# Altium integrated library Xilinx XC1700.IntLib: 26 symbols
Pins are listed as number, name and electrical type; pins without a type are passive.

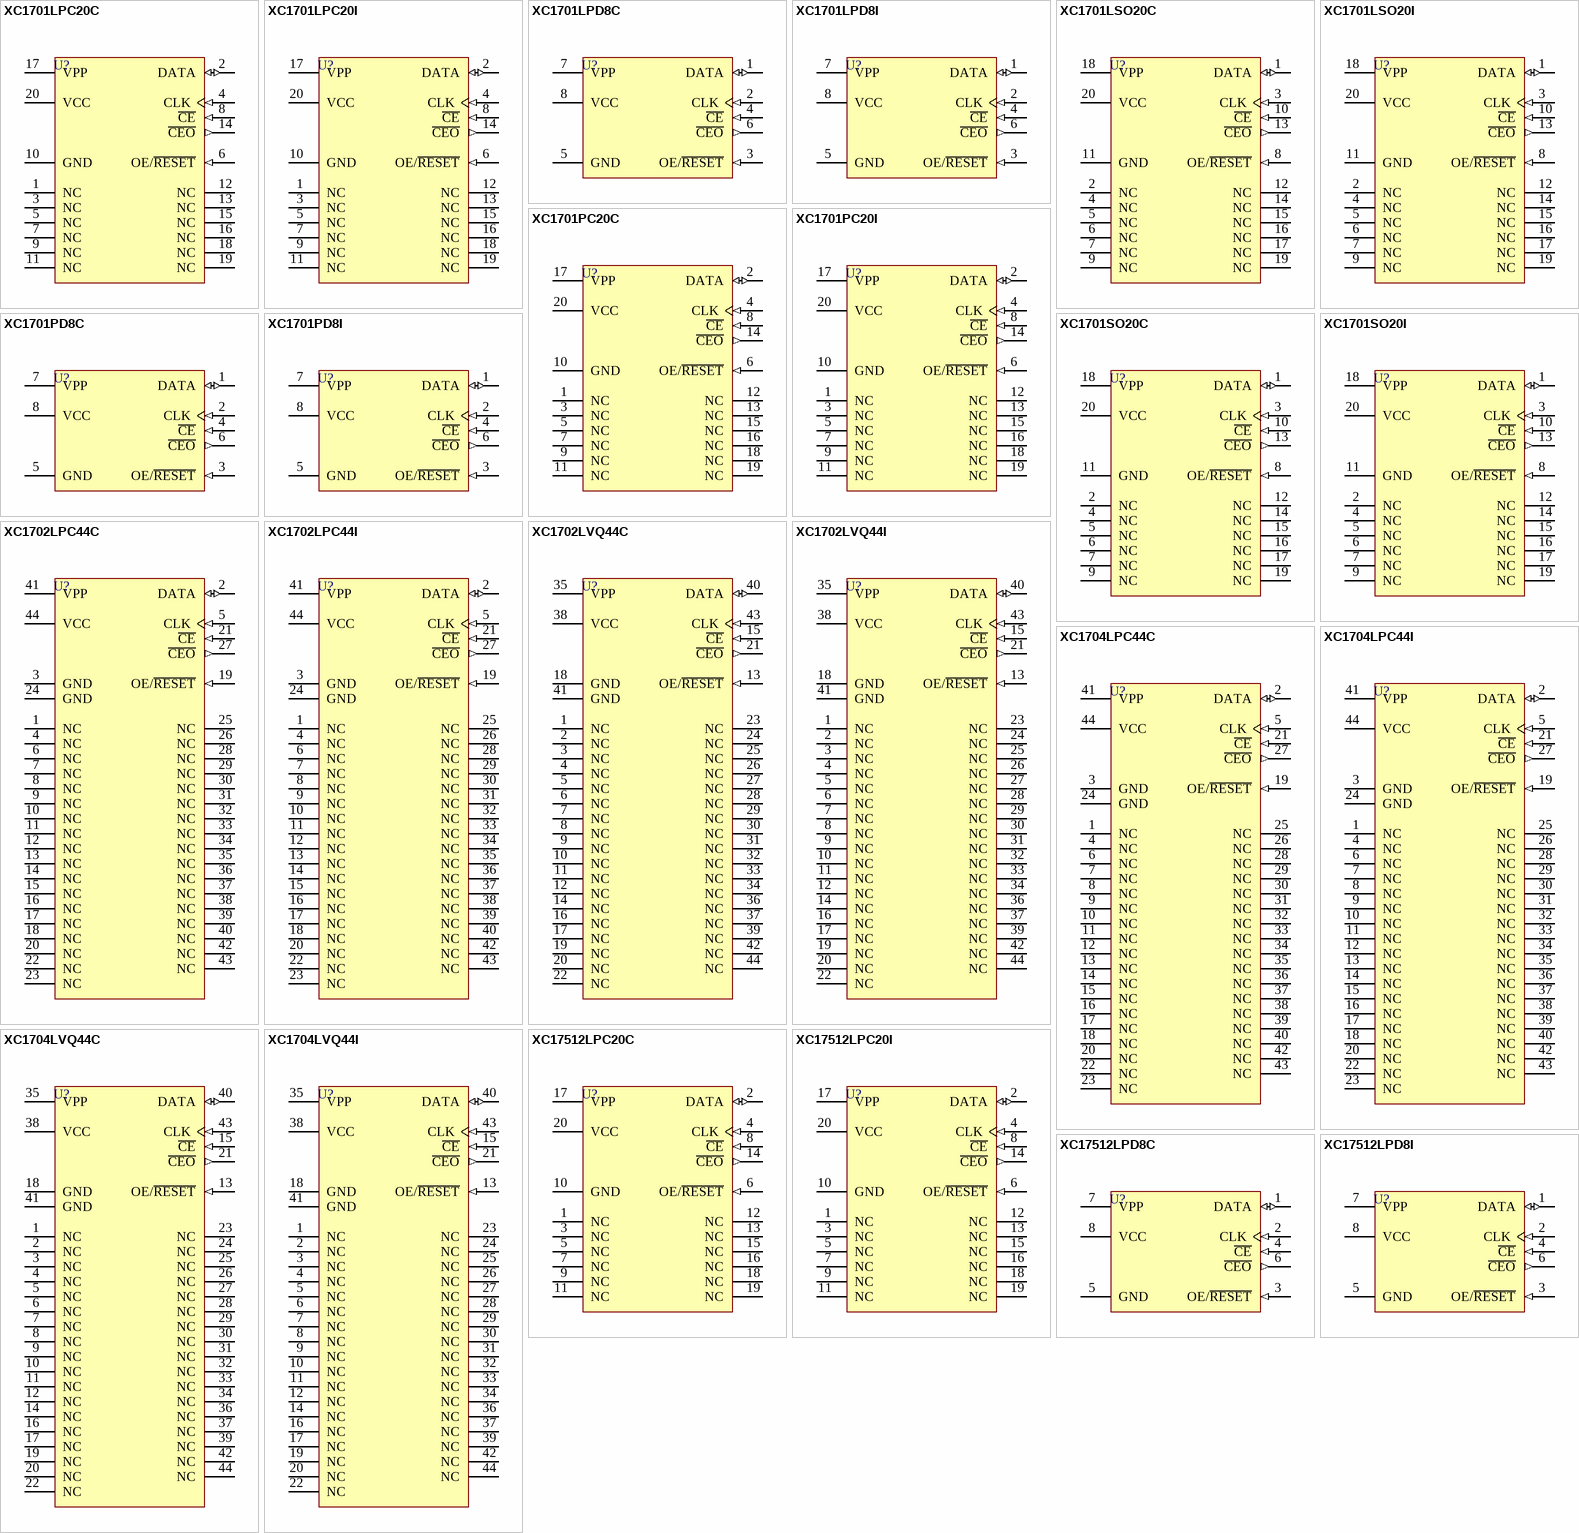
[diagram p0: symbols XC1701LPC20C to XC17512LPD8I]

## XC1701LPC20C
designator U?
XC1700L Series, One-Time Programmable Configuration 3.3V PROM, 20-Pin PLCC, 1-Megabit Density, Commercial Grade; PackageDocument: ver1.0, Jun-2000; Published: 17-Dec-2003; DatasheetDocument: ver3.1, Jul-2000; PackageReference: PC20; Publisher: Altium Limited; Code_JEDEC: MS-047
footprint PC20 (20-Pin Plastic Leaded Chip Carrier (PC20))
3D model XC1701L-PC20 (20-Pin Plastic Leaded Chip Carrier (PC20))
pins: 1 NC "No Connection.", 2 DATA (io) "Data Output.", 3 NC "No Connection.", 4 CLK (in) "Clock input for internal address counter.", 5 NC "No Connection.", 6 OE/~{RESET} (in) "Output Enable/Reset.", 7 NC "No Connection.", 8 ~{CE} (in) "Chip Enable Input.", 9 NC "No Connection.", 10 GND (power) "Ground.", 11 NC "No Connection.", 12 NC "No Connection.", 13 NC "No Connection.", 14 ~{CEO} (out) "Chip Enable Output, connects to the CE input of the next PROM in the chain.", 15 NC "No Connection.", 16 NC "No Connection.", 17 VPP (power) "Programming Voltage.  Do not leave Vpp floating!", 18 NC "No Connection.", 19 NC "No Connection.", 20 VCC (power) "Positive Supply."

## XC1701LPC20I
designator U?
XC1700L Series, One-Time Programmable Configuration 3.3V PROM, 20-Pin PLCC, 1-Megabit Density, Industrial Grade; PackageDocument: ver1.0, Jun-2000; Published: 17-Dec-2003; DatasheetDocument: ver3.1, Jul-2000; PackageReference: PC20; Publisher: Altium Limited; Code_JEDEC: MS-047
footprint PC20 (20-Pin Plastic Leaded Chip Carrier (PC20))
3D model XC1701L-PC20 (20-Pin Plastic Leaded Chip Carrier (PC20))
pins: 1 NC "No Connection.", 2 DATA (io) "Data Output.", 3 NC "No Connection.", 4 CLK (in) "Clock input for internal address counter.", 5 NC "No Connection.", 6 OE/~{RESET} (in) "Output Enable/Reset.", 7 NC "No Connection.", 8 ~{CE} (in) "Chip Enable Input.", 9 NC "No Connection.", 10 GND (power) "Ground.", 11 NC "No Connection.", 12 NC "No Connection.", 13 NC "No Connection.", 14 ~{CEO} (out) "Chip Enable Output, connects to the CE input of the next PROM in the chain.", 15 NC "No Connection.", 16 NC "No Connection.", 17 VPP (power) "Programming Voltage.  Do not leave Vpp floating!", 18 NC "No Connection.", 19 NC "No Connection.", 20 VCC (power) "Positive Supply."

## XC1701LPD8C
designator U?
XC1700L Series, One-Time Programmable Configuration 3.3V PROM, 8-Pin PDIP, 1-Megabit Density, Commercial Grade; PackageDocument: rev1.1, Apr-2001; Published: 17-Dec-2003; DatasheetDocument: ver3.1, Jul-2000; PackageReference: PD8; Publisher: Altium Limited; Code_JEDEC: MS-001-BA
footprint PD8 (8-Pin Plastic DIP (PD8))
pins: 1 DATA (io) "Data Output.", 2 CLK (in) "Clock input for internal address counter.", 3 OE/~{RESET} (in) "Output Enable/Reset.", 4 ~{CE} (in) "Chip Enable Input.", 5 GND (power) "Ground.", 6 ~{CEO} (out) "Chip Enable Output, connects to the CE input of the next PROM in the chain.", 7 VPP (power) "Programming Voltage.  Do not leave Vpp floating!", 8 VCC (power) "Positive Supply."

## XC1701LPD8I
designator U?
XC1700L Series, One-Time Programmable Configuration 3.3V PROM, 8-Pin PDIP, 1-Megabit Density, Industrial Grade; PackageDocument: rev1.1, Apr-2001; Published: 17-Dec-2003; DatasheetDocument: ver3.1, Jul-2000; PackageReference: PD8; Publisher: Altium Limited; Code_JEDEC: MS-001-BA
footprint PD8 (8-Pin Plastic DIP (PD8))
pins: 1 DATA (io) "Data Output.", 2 CLK (in) "Clock input for internal address counter.", 3 OE/~{RESET} (in) "Output Enable/Reset.", 4 ~{CE} (in) "Chip Enable Input.", 5 GND (power) "Ground.", 6 ~{CEO} (out) "Chip Enable Output, connects to the CE input of the next PROM in the chain.", 7 VPP (power) "Programming Voltage.  Do not leave Vpp floating!", 8 VCC (power) "Positive Supply."

## XC1701LSO20C
designator U?
XC1700L Series, One-Time Programmable Configuration 3.3V PROM, 20-Pin SOIC, 1-Megabit Density, Commercial Grade; PackageDocument: ver1.0, Jun-2000; Published: 17-Dec-2003; DatasheetDocument: ver3.1, Jul-2000; PackageReference: SO20; Publisher: Altium Limited; Code_JEDEC: MS-013-AC
footprint SO20 (20-Pin Small-Outline Package (SO20))
pins: 1 DATA (io) "Data Output.", 2 NC "No Connection.", 3 CLK (in) "Clock input for internal address counter.", 4 NC "No Connection.", 5 NC "No Connection.", 6 NC "No Connection.", 7 NC "No Connection.", 8 OE/~{RESET} (in) "Output Enable/Reset.", 9 NC "No Connection.", 10 ~{CE} (in) "Chip Enable Input.", 11 GND (power) "Ground.", 12 NC "No Connection.", 13 ~{CEO} (out) "Chip Enable Output, connects to the CE input of the next PROM in the chain.", 14 NC "No Connection.", 15 NC "No Connection.", 16 NC "No Connection.", 17 NC "No Connection.", 18 VPP (power) "Programming Voltage.  Do not leave Vpp floating!", 19 NC "No Connection.", 20 VCC (power) "Positive Supply."

## XC1701LSO20I
designator U?
XC1700L Series, One-Time Programmable Configuration 3.3V PROM, 20-Pin SOIC, 1-Megabit Density, Industrial Grade; PackageDocument: ver1.0, Jun-2000; Published: 17-Dec-2003; DatasheetDocument: ver3.1, Jul-2000; PackageReference: SO20; Publisher: Altium Limited; Code_JEDEC: MS-013-AC
footprint SO20 (20-Pin Small-Outline Package (SO20))
pins: 1 DATA (io) "Data Output.", 2 NC "No Connection.", 3 CLK (in) "Clock input for internal address counter.", 4 NC "No Connection.", 5 NC "No Connection.", 6 NC "No Connection.", 7 NC "No Connection.", 8 OE/~{RESET} (in) "Output Enable/Reset.", 9 NC "No Connection.", 10 ~{CE} (in) "Chip Enable Input.", 11 GND (power) "Ground.", 12 NC "No Connection.", 13 ~{CEO} (out) "Chip Enable Output, connects to the CE input of the next PROM in the chain.", 14 NC "No Connection.", 15 NC "No Connection.", 16 NC "No Connection.", 17 NC "No Connection.", 18 VPP (power) "Programming Voltage.  Do not leave Vpp floating!", 19 NC "No Connection.", 20 VCC (power) "Positive Supply."

## XC1701PC20C
designator U?
XC1700L Series, One-Time Programmable Configuration 3.3V PROM, 20-Pin PLCC, 1-Megabit Density, Commercial Grade; PackageDocument: ver1.0, Jun-2000; Published: 17-Dec-2003; DatasheetDocument: ver3.1, Jul-2000; PackageReference: PC20; Publisher: Altium Limited; Code_JEDEC: MS-047
footprint PC20 (20-Pin Plastic Leaded Chip Carrier (PC20))
3D model XC1701-PC20 (20-Pin Plastic Leaded Chip Carrier (PC20))
pins: 1 NC "No Connection.", 2 DATA (io) "Data Output.", 3 NC "No Connection.", 4 CLK (in) "Clock input for internal address counter.", 5 NC "No Connection.", 6 OE/~{RESET} (in) "Output Enable/Reset.", 7 NC "No Connection.", 8 ~{CE} (in) "Chip Enable Input.", 9 NC "No Connection.", 10 GND (power) "Ground.", 11 NC "No Connection.", 12 NC "No Connection.", 13 NC "No Connection.", 14 ~{CEO} (out) "Chip Enable Output, connects to the CE input of the next PROM in the chain.", 15 NC "No Connection.", 16 NC "No Connection.", 17 VPP (power) "Programming Voltage.  Do not leave Vpp floating!", 18 NC "No Connection.", 19 NC "No Connection.", 20 VCC (power) "Positive Supply."

## XC1701PC20I
designator U?
XC1700L Series, One-Time Programmable Configuration 3.3V PROM, 20-Pin PLCC, 1-Megabit Density, Industrial Grade; PackageDocument: ver1.0, Jun-2000; Published: 17-Dec-2003; DatasheetDocument: ver3.1, Jul-2000; PackageReference: PC20; Publisher: Altium Limited; Code_JEDEC: MS-047
footprint PC20 (20-Pin Plastic Leaded Chip Carrier (PC20))
3D model XC1701-PC20 (20-Pin Plastic Leaded Chip Carrier (PC20))
pins: 1 NC "No Connection.", 2 DATA (io) "Data Output.", 3 NC "No Connection.", 4 CLK (in) "Clock input for internal address counter.", 5 NC "No Connection.", 6 OE/~{RESET} (in) "Output Enable/Reset.", 7 NC "No Connection.", 8 ~{CE} (in) "Chip Enable Input.", 9 NC "No Connection.", 10 GND (power) "Ground.", 11 NC "No Connection.", 12 NC "No Connection.", 13 NC "No Connection.", 14 ~{CEO} (out) "Chip Enable Output, connects to the CE input of the next PROM in the chain.", 15 NC "No Connection.", 16 NC "No Connection.", 17 VPP (power) "Programming Voltage.  Do not leave Vpp floating!", 18 NC "No Connection.", 19 NC "No Connection.", 20 VCC (power) "Positive Supply."

## XC1701PD8C
designator U?
XC1700L Series, One-Time Programmable Configuration 3.3V PROM, 8-Pin PDIP, 1-Megabit Density, Commercial Grade; PackageDocument: rev1.1, Apr-2001; Published: 17-Dec-2003; DatasheetDocument: ver3.1, Jul-2000; PackageReference: PD8; Publisher: Altium Limited; Code_JEDEC: MS-001-BA
footprint PD8 (8-Pin Plastic DIP (PD8))
pins: 1 DATA (io) "Data Output.", 2 CLK (in) "Clock input for internal address counter.", 3 OE/~{RESET} (in) "Output Enable/Reset.", 4 ~{CE} (in) "Chip Enable Input.", 5 GND (power) "Ground.", 6 ~{CEO} (out) "Chip Enable Output, connects to the CE input of the next PROM in the chain.", 7 VPP (power) "Programming Voltage.  Do not leave Vpp floating!", 8 VCC (power) "Positive Supply."

## XC1701PD8I
designator U?
XC1700L Series, One-Time Programmable Configuration 3.3V PROM, 8-Pin PDIP, 1-Megabit Density, Industrial Grade; PackageDocument: rev1.1, Apr-2001; Published: 17-Dec-2003; DatasheetDocument: ver3.1, Jul-2000; PackageReference: PD8; Publisher: Altium Limited; Code_JEDEC: MS-001-BA
footprint PD8 (8-Pin Plastic DIP (PD8))
pins: 1 DATA (io) "Data Output.", 2 CLK (in) "Clock input for internal address counter.", 3 OE/~{RESET} (in) "Output Enable/Reset.", 4 ~{CE} (in) "Chip Enable Input.", 5 GND (power) "Ground.", 6 ~{CEO} (out) "Chip Enable Output, connects to the CE input of the next PROM in the chain.", 7 VPP (power) "Programming Voltage.  Do not leave Vpp floating!", 8 VCC (power) "Positive Supply."

## XC1701SO20C
designator U?
XC1700L Series, One-Time Programmable Configuration 3.3V PROM, 20-Pin SOIC, 1-Megabit Density, Commercial Grade; PackageDocument: ver1.0, Jun-2000; Published: 17-Dec-2003; DatasheetDocument: ver3.1, Jul-2000; PackageReference: SO20; Publisher: Altium Limited; Code_JEDEC: MS-013-AC
footprint SO20 (20-Pin Small-Outline Package (SO20))
pins: 1 DATA (io) "Data Output.", 2 NC "No Connection.", 3 CLK (in) "Clock input for internal address counter.", 4 NC "No Connection.", 5 NC "No Connection.", 6 NC "No Connection.", 7 NC "No Connection.", 8 OE/~{RESET} (in) "Output Enable/Reset.", 9 NC "No Connection.", 10 ~{CE} (in) "Chip Enable Input.", 11 GND (power) "Ground.", 12 NC "No Connection.", 13 ~{CEO} (out) "Chip Enable Output, connects to the CE input of the next PROM in the chain.", 14 NC "No Connection.", 15 NC "No Connection.", 16 NC "No Connection.", 17 NC "No Connection.", 18 VPP (power) "Programming Voltage.  Do not leave Vpp floating!", 19 NC "No Connection.", 20 VCC (power) "Positive Supply."

## XC1701SO20I
designator U?
XC1700L Series, One-Time Programmable Configuration 3.3V PROM, 20-Pin SOIC, 1-Megabit Density, Industrial Grade; PackageDocument: ver1.0, Jun-2000; Published: 17-Dec-2003; DatasheetDocument: ver3.1, Jul-2000; PackageReference: SO20; Publisher: Altium Limited; Code_JEDEC: MS-013-AC
footprint SO20 (20-Pin Small-Outline Package (SO20))
pins: 1 DATA (io) "Data Output.", 2 NC "No Connection.", 3 CLK (in) "Clock input for internal address counter.", 4 NC "No Connection.", 5 NC "No Connection.", 6 NC "No Connection.", 7 NC "No Connection.", 8 OE/~{RESET} (in) "Output Enable/Reset.", 9 NC "No Connection.", 10 ~{CE} (in) "Chip Enable Input.", 11 GND (power) "Ground.", 12 NC "No Connection.", 13 ~{CEO} (out) "Chip Enable Output, connects to the CE input of the next PROM in the chain.", 14 NC "No Connection.", 15 NC "No Connection.", 16 NC "No Connection.", 17 NC "No Connection.", 18 VPP (power) "Programming Voltage.  Do not leave Vpp floating!", 19 NC "No Connection.", 20 VCC (power) "Positive Supply."

## XC1702LPC44C
designator U?
XC1700L Series, One-Time Programmable Configuration 3.3V PROM, 44-Pin PLCC, 2-Megabit Density, Commercial Grade; PackageDocument: ver1.0, Jun-2000; Published: 17-Dec-2003; DatasheetDocument: ver3.1, Jul-2000; PackageReference: PC44; Publisher: Altium Limited; Code_JEDEC: MS-047; Code_IPC: PLCC-44
footprint PC44 (44-Pin Plastic Leaded Chip Carrier (PC44))
3D model XC1702L-PC44 (44-Pin Plastic Leaded Chip Carrier (PC44))
pins: 1 NC "No Connection.", 2 DATA (io) "Data Output.", 3 GND (power) "Ground.", 4 NC "No Connection.", 5 CLK (in) "Clock input for internal address counter.", 6 NC "No Connection.", 7 NC "No Connection.", 8 NC "No Connection.", 9 NC "No Connection.", 10 NC "No Connection.", 11 NC "No Connection.", 12 NC "No Connection.", 13 NC "No Connection.", 14 NC "No Connection.", 15 NC "No Connection.", 16 NC "No Connection.", 17 NC "No Connection.", 18 NC "No Connection.", 19 OE/~{RESET} (in) "Output Enable/Reset.", 20 NC "No Connection.", 21 ~{CE} (in) "Chip Enable Input.", 22 NC "No Connection.", 23 NC "No Connection.", 24 GND (power) "Ground.", 25 NC "No Connection.", 26 NC "No Connection.", 27 ~{CEO} (out) "Chip Enable Output, connects to the CE input of the next PROM in the chain.", 28 NC "No Connection.", 29 NC "No Connection.", 30 NC "No Connection.", 31 NC "No Connection.", 32 NC "No Connection.", 33 NC "No Connection.", 34 NC "No Connection.", 35 NC "No Connection.", 36 NC "No Connection.", 37 NC "No Connection.", 38 NC "No Connection.", 39 NC "No Connection.", 40 NC "No Connection.", 41 VPP (power) "Programming Voltage.  Do not leave Vpp floating!", 42 NC "No Connection.", 43 NC "No Connection.", 44 VCC (power) "Positive Supply."

## XC1702LPC44I
designator U?
XC1700L Series, One-Time Programmable Configuration 3.3V PROM, 44-Pin PLCC, 2-Megabit Density, Industrial Grade; PackageDocument: ver1.0, Jun-2000; Published: 17-Dec-2003; DatasheetDocument: ver3.1, Jul-2000; PackageReference: PC44; Publisher: Altium Limited; Code_JEDEC: MS-047; Code_IPC: PLCC-44
footprint PC44 (44-Pin Plastic Leaded Chip Carrier (PC44))
3D model XC1702L-PC44 (44-Pin Plastic Leaded Chip Carrier (PC44))
pins: 1 NC "No Connection.", 2 DATA (io) "Data Output.", 3 GND (power) "Ground.", 4 NC "No Connection.", 5 CLK (in) "Clock input for internal address counter.", 6 NC "No Connection.", 7 NC "No Connection.", 8 NC "No Connection.", 9 NC "No Connection.", 10 NC "No Connection.", 11 NC "No Connection.", 12 NC "No Connection.", 13 NC "No Connection.", 14 NC "No Connection.", 15 NC "No Connection.", 16 NC "No Connection.", 17 NC "No Connection.", 18 NC "No Connection.", 19 OE/~{RESET} (in) "Output Enable/Reset.", 20 NC "No Connection.", 21 ~{CE} (in) "Chip Enable Input.", 22 NC "No Connection.", 23 NC "No Connection.", 24 GND (power) "Ground.", 25 NC "No Connection.", 26 NC "No Connection.", 27 ~{CEO} (out) "Chip Enable Output, connects to the CE input of the next PROM in the chain.", 28 NC "No Connection.", 29 NC "No Connection.", 30 NC "No Connection.", 31 NC "No Connection.", 32 NC "No Connection.", 33 NC "No Connection.", 34 NC "No Connection.", 35 NC "No Connection.", 36 NC "No Connection.", 37 NC "No Connection.", 38 NC "No Connection.", 39 NC "No Connection.", 40 NC "No Connection.", 41 VPP (power) "Programming Voltage.  Do not leave Vpp floating!", 42 NC "No Connection.", 43 NC "No Connection.", 44 VCC (power) "Positive Supply."

## XC1702LVQ44C
designator U?
XC1700L Series, One-Time Programmable Configuration 3.3V PROM, 44-Pin VQFP, 2-Megabit Density, Commercial Grade; PackageDocument: ver1.1, Oct-2002; Published: 17-Dec-2003; DatasheetDocument: ver3.1, Jul-2000; PackageReference: VQ44; Publisher: Altium Limited; Code_JEDEC: MS-026-ACB
footprint VQ44 (44-Pin Very Thin Quad Flat Pack (VQ44))
3D model XC1702L-VQ44 (44-Pin Very Thin Quad Flat Pack (VQ44))
pins: 1 NC "No Connection.", 2 NC "No Connection.", 3 NC "No Connection.", 4 NC "No Connection.", 5 NC "No Connection.", 6 NC "No Connection.", 7 NC "No Connection.", 8 NC "No Connection.", 9 NC "No Connection.", 10 NC "No Connection.", 11 NC "No Connection.", 12 NC "No Connection.", 13 OE/~{RESET} (in) "Output Enable/Reset.", 14 NC "No Connection.", 15 ~{CE} (in) "Chip Enable Input.", 16 NC "No Connection.", 17 NC "No Connection.", 18 GND (power) "Ground.", 19 NC "No Connection.", 20 NC "No Connection.", 21 ~{CEO} (out) "Chip Enable Output, connects to the CE input of the next PROM in the chain.", 22 NC "No Connection.", 23 NC "No Connection.", 24 NC "No Connection.", 25 NC "No Connection.", 26 NC "No Connection.", 27 NC "No Connection.", 28 NC "No Connection.", 29 NC "No Connection.", 30 NC "No Connection.", 31 NC "No Connection.", 32 NC "No Connection.", 33 NC "No Connection.", 34 NC "No Connection.", 35 VPP (power) "Programming Voltage.  Do not leave Vpp floating!", 36 NC "No Connection.", 37 NC "No Connection.", 38 VCC (power) "Positive Supply.", 39 NC "No Connection.", 40 DATA (io) "Data Output.", 41 GND (power) "Ground.", 42 NC "No Connection.", 43 CLK (in) "Clock input for internal address counter.", 44 NC "No Connection."

## XC1702LVQ44I
designator U?
XC1700L Series, One-Time Programmable Configuration 3.3V PROM, 44-Pin VQFP, 2-Megabit Density, Industrial Grade; PackageDocument: ver1.1, Oct-2002; Published: 17-Dec-2003; DatasheetDocument: ver3.1, Jul-2000; PackageReference: VQ44; Publisher: Altium Limited; Code_JEDEC: MS-026-ACB
footprint VQ44 (44-Pin Very Thin Quad Flat Pack (VQ44))
3D model XC1702L-VQ44 (44-Pin Very Thin Quad Flat Pack (VQ44))
pins: 1 NC "No Connection.", 2 NC "No Connection.", 3 NC "No Connection.", 4 NC "No Connection.", 5 NC "No Connection.", 6 NC "No Connection.", 7 NC "No Connection.", 8 NC "No Connection.", 9 NC "No Connection.", 10 NC "No Connection.", 11 NC "No Connection.", 12 NC "No Connection.", 13 OE/~{RESET} (in) "Output Enable/Reset.", 14 NC "No Connection.", 15 ~{CE} (in) "Chip Enable Input.", 16 NC "No Connection.", 17 NC "No Connection.", 18 GND (power) "Ground.", 19 NC "No Connection.", 20 NC "No Connection.", 21 ~{CEO} (out) "Chip Enable Output, connects to the CE input of the next PROM in the chain.", 22 NC "No Connection.", 23 NC "No Connection.", 24 NC "No Connection.", 25 NC "No Connection.", 26 NC "No Connection.", 27 NC "No Connection.", 28 NC "No Connection.", 29 NC "No Connection.", 30 NC "No Connection.", 31 NC "No Connection.", 32 NC "No Connection.", 33 NC "No Connection.", 34 NC "No Connection.", 35 VPP (power) "Programming Voltage.  Do not leave Vpp floating!", 36 NC "No Connection.", 37 NC "No Connection.", 38 VCC (power) "Positive Supply.", 39 NC "No Connection.", 40 DATA (io) "Data Output.", 41 GND (power) "Ground.", 42 NC "No Connection.", 43 CLK (in) "Clock input for internal address counter.", 44 NC "No Connection."

## XC1704LPC44C
designator U?
XC1700L Series, One-Time Programmable Configuration 3.3V PROM, 44-Pin PLCC, 4-Megabit Density, Commercial Grade; PackageDocument: ver1.0, Jun-2000; Published: 17-Dec-2003; DatasheetDocument: ver3.1, Jul-2000; PackageReference: PC44; Publisher: Altium Limited; Code_JEDEC: MS-047; Code_IPC: PLCC-44
footprint PC44 (44-Pin Plastic Leaded Chip Carrier (PC44))
3D model XC1704L-PC44 (44-Pin Plastic Leaded Chip Carrier (PC44))
pins: 1 NC "No Connection.", 2 DATA (io) "Data Output.", 3 GND (power) "Ground.", 4 NC "No Connection.", 5 CLK (in) "Clock input for internal address counter.", 6 NC "No Connection.", 7 NC "No Connection.", 8 NC "No Connection.", 9 NC "No Connection.", 10 NC "No Connection.", 11 NC "No Connection.", 12 NC "No Connection.", 13 NC "No Connection.", 14 NC "No Connection.", 15 NC "No Connection.", 16 NC "No Connection.", 17 NC "No Connection.", 18 NC "No Connection.", 19 OE/~{RESET} (in) "Output Enable/Reset.", 20 NC "No Connection.", 21 ~{CE} (in) "Chip Enable Input.", 22 NC "No Connection.", 23 NC "No Connection.", 24 GND (power) "Ground.", 25 NC "No Connection.", 26 NC "No Connection.", 27 ~{CEO} (out) "Chip Enable Output, connects to the CE input of the next PROM in the chain.", 28 NC "No Connection.", 29 NC "No Connection.", 30 NC "No Connection.", 31 NC "No Connection.", 32 NC "No Connection.", 33 NC "No Connection.", 34 NC "No Connection.", 35 NC "No Connection.", 36 NC "No Connection.", 37 NC "No Connection.", 38 NC "No Connection.", 39 NC "No Connection.", 40 NC "No Connection.", 41 VPP (power) "Programming Voltage.  Do not leave Vpp floating!", 42 NC "No Connection.", 43 NC "No Connection.", 44 VCC (power) "Positive Supply."

## XC1704LPC44I
designator U?
XC1700L Series, One-Time Programmable Configuration 3.3V PROM, 44-Pin PLCC, 4-Megabit Density, Industrial Grade; PackageDocument: ver1.0, Jun-2000; Published: 17-Dec-2003; DatasheetDocument: ver3.1, Jul-2000; PackageReference: PC44; Publisher: Altium Limited; Code_JEDEC: MS-047; Code_IPC: PLCC-44
footprint PC44 (44-Pin Plastic Leaded Chip Carrier (PC44))
3D model XC1704L-PC44 (44-Pin Plastic Leaded Chip Carrier (PC44))
pins: 1 NC "No Connection.", 2 DATA (io) "Data Output.", 3 GND (power) "Ground.", 4 NC "No Connection.", 5 CLK (in) "Clock input for internal address counter.", 6 NC "No Connection.", 7 NC "No Connection.", 8 NC "No Connection.", 9 NC "No Connection.", 10 NC "No Connection.", 11 NC "No Connection.", 12 NC "No Connection.", 13 NC "No Connection.", 14 NC "No Connection.", 15 NC "No Connection.", 16 NC "No Connection.", 17 NC "No Connection.", 18 NC "No Connection.", 19 OE/~{RESET} (in) "Output Enable/Reset.", 20 NC "No Connection.", 21 ~{CE} (in) "Chip Enable Input.", 22 NC "No Connection.", 23 NC "No Connection.", 24 GND (power) "Ground.", 25 NC "No Connection.", 26 NC "No Connection.", 27 ~{CEO} (out) "Chip Enable Output, connects to the CE input of the next PROM in the chain.", 28 NC "No Connection.", 29 NC "No Connection.", 30 NC "No Connection.", 31 NC "No Connection.", 32 NC "No Connection.", 33 NC "No Connection.", 34 NC "No Connection.", 35 NC "No Connection.", 36 NC "No Connection.", 37 NC "No Connection.", 38 NC "No Connection.", 39 NC "No Connection.", 40 NC "No Connection.", 41 VPP (power) "Programming Voltage.  Do not leave Vpp floating!", 42 NC "No Connection.", 43 NC "No Connection.", 44 VCC (power) "Positive Supply."

## XC1704LVQ44C
designator U?
XC1700L Series, One-Time Programmable Configuration 3.3V PROM, 44-Pin VQFP, 4-Megabit Density, Commercial Grade; PackageDocument: ver1.1, Oct-2002; Published: 17-Dec-2003; DatasheetDocument: ver3.1, Jul-2000; PackageReference: VQ44; Publisher: Altium Limited; Code_JEDEC: MS-026-ACB
footprint VQ44 (44-Pin Very Thin Quad Flat Pack (VQ44))
3D model XC1704L-VQ44 (44-Pin Very Thin Quad Flat Pack (VQ44))
pins: 1 NC "No Connection.", 2 NC "No Connection.", 3 NC "No Connection.", 4 NC "No Connection.", 5 NC "No Connection.", 6 NC "No Connection.", 7 NC "No Connection.", 8 NC "No Connection.", 9 NC "No Connection.", 10 NC "No Connection.", 11 NC "No Connection.", 12 NC "No Connection.", 13 OE/~{RESET} (in) "Output Enable/Reset.", 14 NC "No Connection.", 15 ~{CE} (in) "Chip Enable Input.", 16 NC "No Connection.", 17 NC "No Connection.", 18 GND (power) "Ground.", 19 NC "No Connection.", 20 NC "No Connection.", 21 ~{CEO} (out) "Chip Enable Output, connects to the CE input of the next PROM in the chain.", 22 NC "No Connection.", 23 NC "No Connection.", 24 NC "No Connection.", 25 NC "No Connection.", 26 NC "No Connection.", 27 NC "No Connection.", 28 NC "No Connection.", 29 NC "No Connection.", 30 NC "No Connection.", 31 NC "No Connection.", 32 NC "No Connection.", 33 NC "No Connection.", 34 NC "No Connection.", 35 VPP (power) "Programming Voltage.  Do not leave Vpp floating!", 36 NC "No Connection.", 37 NC "No Connection.", 38 VCC (power) "Positive Supply.", 39 NC "No Connection.", 40 DATA (io) "Data Output.", 41 GND (power) "Ground.", 42 NC "No Connection.", 43 CLK (in) "Clock input for internal address counter.", 44 NC "No Connection."

## XC1704LVQ44I
designator U?
XC1700L Series, One-Time Programmable Configuration 3.3V PROM, 44-Pin VQFP, 4-Megabit Density, Industrial Grade; PackageDocument: ver1.1, Oct-2002; Published: 17-Dec-2003; DatasheetDocument: ver3.1, Jul-2000; PackageReference: VQ44; Publisher: Altium Limited; Code_JEDEC: MS-026-ACB
footprint VQ44 (44-Pin Very Thin Quad Flat Pack (VQ44))
3D model XC1704L-VQ44 (44-Pin Very Thin Quad Flat Pack (VQ44))
pins: 1 NC "No Connection.", 2 NC "No Connection.", 3 NC "No Connection.", 4 NC "No Connection.", 5 NC "No Connection.", 6 NC "No Connection.", 7 NC "No Connection.", 8 NC "No Connection.", 9 NC "No Connection.", 10 NC "No Connection.", 11 NC "No Connection.", 12 NC "No Connection.", 13 OE/~{RESET} (in) "Output Enable/Reset.", 14 NC "No Connection.", 15 ~{CE} (in) "Chip Enable Input.", 16 NC "No Connection.", 17 NC "No Connection.", 18 GND (power) "Ground.", 19 NC "No Connection.", 20 NC "No Connection.", 21 ~{CEO} (out) "Chip Enable Output, connects to the CE input of the next PROM in the chain.", 22 NC "No Connection.", 23 NC "No Connection.", 24 NC "No Connection.", 25 NC "No Connection.", 26 NC "No Connection.", 27 NC "No Connection.", 28 NC "No Connection.", 29 NC "No Connection.", 30 NC "No Connection.", 31 NC "No Connection.", 32 NC "No Connection.", 33 NC "No Connection.", 34 NC "No Connection.", 35 VPP (power) "Programming Voltage.  Do not leave Vpp floating!", 36 NC "No Connection.", 37 NC "No Connection.", 38 VCC (power) "Positive Supply.", 39 NC "No Connection.", 40 DATA (io) "Data Output.", 41 GND (power) "Ground.", 42 NC "No Connection.", 43 CLK (in) "Clock input for internal address counter.", 44 NC "No Connection."

## XC17512LPC20C
designator U?
XC1700L Series, One-Time Programmable Configuration 3.3V PROM, 20-Pin PLCC, 512-Kilobit Density, Commercial Grade; PackageDocument: ver1.0, Jun-2000; Published: 17-Dec-2003; DatasheetDocument: ver3.1, Jul-2000; PackageReference: PC20; Publisher: Altium Limited; Code_JEDEC: MS-047
footprint PC20 (20-Pin Plastic Leaded Chip Carrier (PC20))
3D model XC17512L-PC20 (20-Pin Plastic Leaded Chip Carrier (PC20))
pins: 1 NC "No Connection.", 2 DATA (io) "Data Output.", 3 NC "No Connection.", 4 CLK (in) "Clock input for internal address counter.", 5 NC "No Connection.", 6 OE/~{RESET} (in) "Output Enable/Reset.", 7 NC "No Connection.", 8 ~{CE} (in) "Chip Enable Input.", 9 NC "No Connection.", 10 GND (power) "Ground.", 11 NC "No Connection.", 12 NC "No Connection.", 13 NC "No Connection.", 14 ~{CEO} (out) "Chip Enable Output, connects to the CE input of the next PROM in the chain.", 15 NC "No Connection.", 16 NC "No Connection.", 17 VPP (power) "Programming Voltage.  Do not leave Vpp floating!", 18 NC "No Connection.", 19 NC "No Connection.", 20 VCC (power) "Positive Supply."

## XC17512LPC20I
designator U?
XC1700L Series, One-Time Programmable Configuration 3.3V PROM, 20-Pin PLCC, 512-Kilobit Density, Industrial Grade; PackageDocument: ver1.0, Jun-2000; Published: 17-Dec-2003; DatasheetDocument: ver3.1, Jul-2000; PackageReference: PC20; Publisher: Altium Limited; Code_JEDEC: MS-047
footprint PC20 (20-Pin Plastic Leaded Chip Carrier (PC20))
3D model XC17512L-PC20 (20-Pin Plastic Leaded Chip Carrier (PC20))
pins: 1 NC "No Connection.", 2 DATA (io) "Data Output.", 3 NC "No Connection.", 4 CLK (in) "Clock input for internal address counter.", 5 NC "No Connection.", 6 OE/~{RESET} (in) "Output Enable/Reset.", 7 NC "No Connection.", 8 ~{CE} (in) "Chip Enable Input.", 9 NC "No Connection.", 10 GND (power) "Ground.", 11 NC "No Connection.", 12 NC "No Connection.", 13 NC "No Connection.", 14 ~{CEO} (out) "Chip Enable Output, connects to the CE input of the next PROM in the chain.", 15 NC "No Connection.", 16 NC "No Connection.", 17 VPP (power) "Programming Voltage.  Do not leave Vpp floating!", 18 NC "No Connection.", 19 NC "No Connection.", 20 VCC (power) "Positive Supply."

## XC17512LPD8C
designator U?
XC1700L Series, One-Time Programmable Configuration 3.3V PROM, 8-Pin PDIP, 512-Kilobit Density, Commercial Grade; PackageDocument: rev1.1, Apr-2001; Published: 17-Dec-2003; DatasheetDocument: ver3.1, Jul-2000; PackageReference: PD8; Publisher: Altium Limited; Code_JEDEC: MS-001-BA
footprint PD8 (8-Pin Plastic DIP (PD8))
pins: 1 DATA (io) "Data Output.", 2 CLK (in) "Clock input for internal address counter.", 3 OE/~{RESET} (in) "Output Enable/Reset.", 4 ~{CE} (in) "Chip Enable Input.", 5 GND (power) "Ground.", 6 ~{CEO} (out) "Chip Enable Output, connects to the CE input of the next PROM in the chain.", 7 VPP (power) "Programming Voltage.  Do not leave Vpp floating!", 8 VCC (power) "Positive Supply."

## XC17512LPD8I
designator U?
XC1700L Series, One-Time Programmable Configuration 3.3V PROM, 8-Pin PDIP, 512-Kilobit Density, Industrial Grade; PackageDocument: rev1.1, Apr-2001; Published: 17-Dec-2003; DatasheetDocument: ver3.1, Jul-2000; PackageReference: PD8; Publisher: Altium Limited; Code_JEDEC: MS-001-BA
footprint PD8 (8-Pin Plastic DIP (PD8))
pins: 1 DATA (io) "Data Output.", 2 CLK (in) "Clock input for internal address counter.", 3 OE/~{RESET} (in) "Output Enable/Reset.", 4 ~{CE} (in) "Chip Enable Input.", 5 GND (power) "Ground.", 6 ~{CEO} (out) "Chip Enable Output, connects to the CE input of the next PROM in the chain.", 7 VPP (power) "Programming Voltage.  Do not leave Vpp floating!", 8 VCC (power) "Positive Supply."

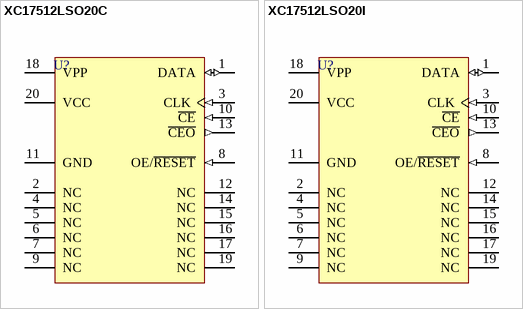
[diagram p1: symbols XC17512LSO20C to XC17512LSO20I]

## XC17512LSO20C
designator U?
XC1700L Series, One-Time Programmable Configuration 3.3V PROM, 20-Pin SOIC, 512-Kilobit Density, Commercial Grade; PackageDocument: ver1.0, Jun-2000; Published: 17-Dec-2003; DatasheetDocument: ver3.1, Jul-2000; PackageReference: SO20; Publisher: Altium Limited; Code_JEDEC: MS-013-AC
footprint SO20 (20-Pin Small-Outline Package (SO20))
pins: 1 DATA (io) "Data Output.", 2 NC "No Connection.", 3 CLK (in) "Clock input for internal address counter.", 4 NC "No Connection.", 5 NC "No Connection.", 6 NC "No Connection.", 7 NC "No Connection.", 8 OE/~{RESET} (in) "Output Enable/Reset.", 9 NC "No Connection.", 10 ~{CE} (in) "Chip Enable Input.", 11 GND (power) "Ground.", 12 NC "No Connection.", 13 ~{CEO} (out) "Chip Enable Output, connects to the CE input of the next PROM in the chain.", 14 NC "No Connection.", 15 NC "No Connection.", 16 NC "No Connection.", 17 NC "No Connection.", 18 VPP (power) "Programming Voltage.  Do not leave Vpp floating!", 19 NC "No Connection.", 20 VCC (power) "Positive Supply."

## XC17512LSO20I
designator U?
XC1700L Series, One-Time Programmable Configuration 3.3V PROM, 20-Pin SOIC, 512-Kilobit Density, Industrial Grade; PackageDocument: ver1.0, Jun-2000; Published: 17-Dec-2003; DatasheetDocument: ver3.1, Jul-2000; PackageReference: SO20; Publisher: Altium Limited; Code_JEDEC: MS-013-AC
footprint SO20 (20-Pin Small-Outline Package (SO20))
pins: 1 DATA (io) "Data Output.", 2 NC "No Connection.", 3 CLK (in) "Clock input for internal address counter.", 4 NC "No Connection.", 5 NC "No Connection.", 6 NC "No Connection.", 7 NC "No Connection.", 8 OE/~{RESET} (in) "Output Enable/Reset.", 9 NC "No Connection.", 10 ~{CE} (in) "Chip Enable Input.", 11 GND (power) "Ground.", 12 NC "No Connection.", 13 ~{CEO} (out) "Chip Enable Output, connects to the CE input of the next PROM in the chain.", 14 NC "No Connection.", 15 NC "No Connection.", 16 NC "No Connection.", 17 NC "No Connection.", 18 VPP (power) "Programming Voltage.  Do not leave Vpp floating!", 19 NC "No Connection.", 20 VCC (power) "Positive Supply."